# Altium schematic symbol library Terminal_Blocks_Spring Clamp_5.08mm.SchLib: 11 symbols
Pins are listed as number, name and electrical type; pins without a type are passive.

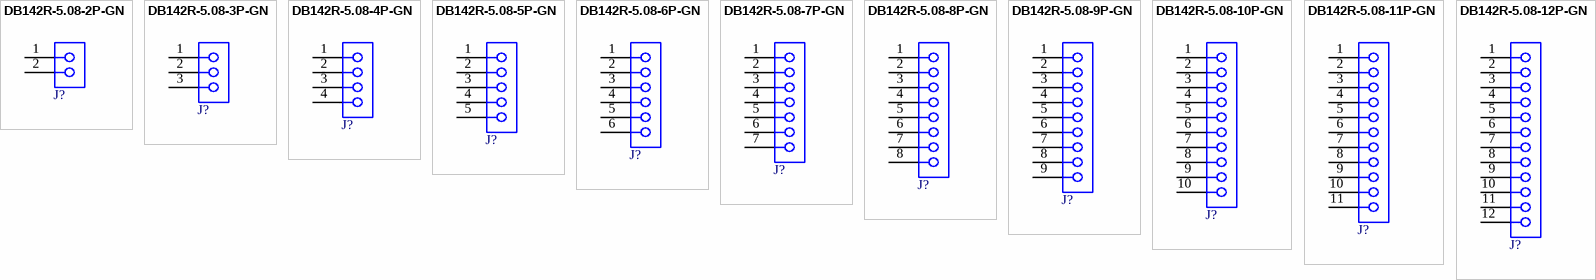
[diagram p0: symbols DB142R-5.08-2P-GN to DB142R-5.08-12P-GN]

## DB142R-5.08-2P-GN
designator J?  (value not drawn)
2 Position Wire to Board Terminal Block 5.08mm Through Hole, Right Angle; Manufacturer: DORABO; Match Code: WR-TBL; Modularity: No; Rated Current: 15A; Working Voltage: 300V; ComponentLink1Description: Datasheet; ComponentLink1URL: https://www.lcsc.com/datasheet/C2898709.pdf; Manufacturer Part Number: DB142R-5.08-2P-GN; Category: Terminal Blocks; Mount: Through Hole; Operating Temperature Max: 120°C; Operating Temperature Min: -30°C; Packaging: Box; Application: Screwless; Number of Pins: 2; Number of Rows: 1; Orientation: Horizontal; Pitch: 5.08mm; Supplier 1 URL: N/A; Supplier 2 URL: N/A; Supplier 3 URL: https://www.thegioiic.com/kf142-5-08-2-r-terminal-block-2-tiep-diem-cam-day-ngang-5-08mm-250v-10a; Value: DB142R-5.08-2P-GN; LCSC Part #: C2898709; Supplier 1: Mouser; Supplier 1 Part Number: N/A; Supplier 2: Digi-Key; Supplier 2 Part Number: N/A; Supplier 3: thegioiic; Supplier 3 Part Number: N/A
footprint 691411510002
pins: 1, 2

## DB142R-5.08-3P-GN
designator J?  (value not drawn)
3 Position Wire to Board Terminal Block 5.08mm Through Hole, Right Angle; Manufacturer: DORABO; Match Code: WR-TBL; Modularity: No; Rated Current: 15A; Working Voltage: 300V; ComponentLink1Description: Datasheet; ComponentLink1URL: https://www.lcsc.com/datasheet/C2898709.pdf; Manufacturer Part Number: DB142R-5.08-3P-GN; Category: Terminal Blocks; Mount: Through Hole; Operating Temperature Max: 120°C; Operating Temperature Min: -30°C; Packaging: Box; Application: Screwless; Number of Pins: 3; Number of Rows: 1; Orientation: Horizontal; Pitch: 5.08mm; Supplier 1 URL: N/A; Supplier 2 URL: N/A; Supplier 3 URL: https://www.thegioiic.com/kf142-5-08-3-r-terminal-block-3-tiep-diem-cam-day-ngang-5-08mm-250v-10a; Value: DB142R-5.08-3P-GN; LCSC Part #: C2898710; Supplier 1: Mouser; Supplier 1 Part Number: N/A; Supplier 2: Digi-Key; Supplier 2 Part Number: N/A; Supplier 3: thegioiic; Supplier 3 Part Number: N/A
footprint 691411510003
pins: 1, 2, 3

## DB142R-5.08-4P-GN
designator J?  (value not drawn)
4 Position Wire to Board Terminal Block 5.08mm Through Hole, Right Angle; Manufacturer: DORABO; Match Code: WR-TBL; Modularity: No; Rated Current: 15A; Working Voltage: 300V; ComponentLink1Description: Datasheet; ComponentLink1URL: https://www.lcsc.com/datasheet/C2898709.pdf; Manufacturer Part Number: DB142R-5.08-4P-GN; Category: Terminal Blocks; Mount: Through Hole; Operating Temperature Max: 120°C; Operating Temperature Min: -30°C; Packaging: Box; Application: Screwless; Number of Pins: 4; Number of Rows: 1; Orientation: Horizontal; Pitch: 5.08mm; Supplier 1 URL: N/A; Supplier 2 URL: N/A; Supplier 3 URL: https://www.thegioiic.com/kf142-5-08-4-r-terminal-block-4-tiep-diem-cam-day-ngang-5-08mm-250v-10a; Value: DB142R-5.08-4P-GN; LCSC Part #: C2898711; Supplier 1: Mouser; Supplier 1 Part Number: N/A; Supplier 2: Digi-Key; Supplier 2 Part Number: N/A; Supplier 3: thegioiic; Supplier 3 Part Number: N/A
footprint 691411510004
pins: 1, 2, 3, 4

## DB142R-5.08-5P-GN
designator J?  (value not drawn)
5 Position Wire to Board Terminal Block 5.08mm Through Hole, Right Angle; Manufacturer: DORABO; Match Code: WR-TBL; Modularity: No; Rated Current: 15A; Working Voltage: 300V; ComponentLink1Description: Datasheet; ComponentLink1URL: https://www.lcsc.com/datasheet/C2898709.pdf; Manufacturer Part Number: DB142R-5.08-5P-GN; Category: Terminal Blocks; Mount: Through Hole; Operating Temperature Max: 120°C; Operating Temperature Min: -30°C; Packaging: Box; Application: Screwless; Number of Pins: 5; Number of Rows: 1; Orientation: Horizontal; Pitch: 5.08mm; Supplier 1 URL: N/A; Supplier 2 URL: N/A; Supplier 3 URL: https://www.thegioiic.com/kf142-5-08-5-r-terminal-block-5-tiep-diem-cam-day-ngang-5-08mm-250v-10a; Value: DB142R-5.08-5P-GN; LCSC Part #: C2898712; Supplier 1: Mouser; Supplier 1 Part Number: N/A; Supplier 2: Digi-Key; Supplier 2 Part Number: N/A; Supplier 3: thegioiic; Supplier 3 Part Number: N/A
footprint 691411510005
pins: 1, 2, 3, 4, 5

## DB142R-5.08-6P-GN
designator J?  (value not drawn)
6 Position Wire to Board Terminal Block 5.08mm Through Hole, Right Angle; Manufacturer: DORABO; Match Code: WR-TBL; Modularity: No; Rated Current: 15A; Working Voltage: 300V; ComponentLink1Description: Datasheet; ComponentLink1URL: https://www.lcsc.com/datasheet/C2898709.pdf; Manufacturer Part Number: DB142R-5.08-6P-GN; Category: Terminal Blocks; Mount: Through Hole; Operating Temperature Max: 120°C; Operating Temperature Min: -30°C; Packaging: Box; Application: Screwless; Number of Pins: 6; Number of Rows: 1; Orientation: Horizontal; Pitch: 5.08mm; Supplier 1 URL: N/A; Supplier 2 URL: N/A; Supplier 3 URL: https://www.thegioiic.com/kf142-5-08-6-r-terminal-block-6-tiep-diem-cam-day-ngang-5-08mm-250v-10a; Value: DB142R-5.08-6P-GN; LCSC Part #: C2898713; Supplier 1: Mouser; Supplier 1 Part Number: N/A; Supplier 2: Digi-Key; Supplier 2 Part Number: N/A; Supplier 3: thegioiic; Supplier 3 Part Number: N/A
footprint 691411510006
pins: 1, 2, 3, 4, 5, 6

## DB142R-5.08-7P-GN
designator J?  (value not drawn)
7 Position Wire to Board Terminal Block 5.08mm Through Hole, Right Angle; Manufacturer: DORABO; Match Code: WR-TBL; Modularity: No; Rated Current: 15A; Working Voltage: 300V; ComponentLink1Description: Datasheet; ComponentLink1URL: https://www.lcsc.com/datasheet/C2898709.pdf; Manufacturer Part Number: DB142R-5.08-7P-GN; Category: Terminal Blocks; Mount: Through Hole; Operating Temperature Max: 120°C; Operating Temperature Min: -30°C; Packaging: Box; Application: Screwless; Number of Pins: 7; Number of Rows: 1; Orientation: Horizontal; Pitch: 5.08mm; Supplier 1 URL: N/A; Supplier 2 URL: N/A; Supplier 3 URL: https://www.thegioiic.com/kf142-5-08-7-r-terminal-block-7-tiep-diem-cam-day-ngang-5-08mm-250v-10a; Value: DB142R-5.08-7P-GN; LCSC Part #: C2898714; Supplier 1: Mouser; Supplier 1 Part Number: N/A; Supplier 2: Digi-Key; Supplier 2 Part Number: N/A; Supplier 3: thegioiic; Supplier 3 Part Number: N/A
footprint 691411510007
pins: 1, 2, 3, 4, 5, 6, 7

## DB142R-5.08-8P-GN
designator J?  (value not drawn)
8 Position Wire to Board Terminal Block 5.08mm Through Hole, Right Angle; Manufacturer: DORABO; Match Code: WR-TBL; Modularity: No; Rated Current: 15A; Working Voltage: 300V; ComponentLink1Description: Datasheet; ComponentLink1URL: https://www.lcsc.com/datasheet/C2898709.pdf; Manufacturer Part Number: DB142R-5.08-8P-GN; Category: Terminal Blocks; Mount: Through Hole; Operating Temperature Max: 120°C; Operating Temperature Min: -30°C; Packaging: Box; Application: Screwless; Number of Pins: 8; Number of Rows: 1; Orientation: Horizontal; Pitch: 5.08mm; Supplier 1 URL: N/A; Supplier 2 URL: N/A; Supplier 3 URL: https://www.thegioiic.com/kf142-5-08-8-r-terminal-block-8-tiep-diem-cam-day-ngang-5-08mm-250v-10a; Value: DB142R-5.08-8P-GN; LCSC Part #: C2898715; Supplier 1: Mouser; Supplier 1 Part Number: N/A; Supplier 2: Digi-Key; Supplier 2 Part Number: N/A; Supplier 3: thegioiic; Supplier 3 Part Number: N/A
footprint 691411510008
pins: 1, 2, 3, 4, 5, 6, 7, 8

## DB142R-5.08-9P-GN
designator J?  (value not drawn)
9 Position Wire to Board Terminal Block 5.08mm Through Hole, Right Angle; Manufacturer: DORABO; Match Code: WR-TBL; Modularity: No; Rated Current: 15A; Working Voltage: 300V; ComponentLink1Description: Datasheet; ComponentLink1URL: https://www.lcsc.com/datasheet/C2898709.pdf; Manufacturer Part Number: DB142R-5.08-9P-GN; Category: Terminal Blocks; Mount: Through Hole; Operating Temperature Max: 120°C; Operating Temperature Min: -30°C; Packaging: Box; Application: Screwless; Number of Pins: 9; Number of Rows: 1; Orientation: Horizontal; Pitch: 5.08mm; Supplier 1 URL: N/A; Supplier 2 URL: N/A; Supplier 3 URL: https://www.thegioiic.com/kf142-5-08-9-r-terminal-block-9-tiep-diem-cam-day-ngang-5-08mm-250v-10a; Value: DB142R-5.08-9P-GN; LCSC Part #: C2898716; Supplier 1: Mouser; Supplier 1 Part Number: N/A; Supplier 2: Digi-Key; Supplier 2 Part Number: N/A; Supplier 3: thegioiic; Supplier 3 Part Number: N/A
footprint 691411510009
pins: 1, 2, 3, 4, 5, 6, 7, 8, 9

## DB142R-5.08-10P-GN
designator J?  (value not drawn)
10 Position Wire to Board Terminal Block 5.08mm Through Hole, Right Angle; Manufacturer: DORABO; Match Code: WR-TBL; Modularity: No; Rated Current: 15A; Working Voltage: 300V; ComponentLink1Description: Datasheet; ComponentLink1URL: https://www.lcsc.com/datasheet/C2898709.pdf; Manufacturer Part Number: DB142R-5.08-10P-GN; Category: Terminal Blocks; Mount: Through Hole; Operating Temperature Max: 120°C; Operating Temperature Min: -30°C; Packaging: Box; Application: Screwless; Number of Pins: 10; Number of Rows: 1; Orientation: Horizontal; Pitch: 5.08mm; Supplier 1 URL: N/A; Supplier 2 URL: N/A; Supplier 3 URL: https://www.thegioiic.com/kf142-5-08-10-r-terminal-block-10-tiep-diem-cam-day-ngang-5-08mm-250v-10a; Value: DB142R-5.08-10P-GN; LCSC Part #: C2898717; Supplier 1: Mouser; Supplier 1 Part Number: N/A; Supplier 2: Digi-Key; Supplier 2 Part Number: N/A; Supplier 3: thegioiic; Supplier 3 Part Number: N/A
footprint 691411510010
pins: 1, 2, 3, 4, 5, 6, 7, 8, 9, 10

## DB142R-5.08-11P-GN
designator J?  (value not drawn)
11 Position Wire to Board Terminal Block 5.08mm Through Hole, Right Angle; Manufacturer: DORABO; Match Code: WR-TBL; Modularity: No; Rated Current: 15A; Working Voltage: 300V; ComponentLink1Description: Datasheet; ComponentLink1URL: https://www.lcsc.com/datasheet/C2898709.pdf; Manufacturer Part Number: DB142R-5.08-11P-GN; Category: Terminal Blocks; Mount: Through Hole; Operating Temperature Max: 120°C; Operating Temperature Min: -30°C; Packaging: Box; Application: Screwless; Number of Pins: 11; Number of Rows: 1; Orientation: Horizontal; Pitch: 5.08mm; Supplier 1 URL: N/A; Supplier 2 URL: N/A; Supplier 3 URL: https://www.thegioiic.com/kf142-5-08-11-r-terminal-block-11-tiep-diem-cam-day-ngang-5-08mm-250v-10a; Value: DB142R-5.08-11P-GN; LCSC Part #: N/A; Supplier 1: Mouser; Supplier 1 Part Number: N/A; Supplier 2: Digi-Key; Supplier 2 Part Number: N/A; Supplier 3: thegioiic; Supplier 3 Part Number: N/A
footprint 691411510011
pins: 1, 2, 3, 4, 5, 6, 7, 8, 9, 10, 11

## DB142R-5.08-12P-GN
designator J?  (value not drawn)
12 Position Wire to Board Terminal Block 5.08mm Through Hole, Right Angle; Manufacturer: DORABO; Match Code: WR-TBL; Modularity: No; Rated Current: 15A; Working Voltage: 300V; ComponentLink1Description: Datasheet; ComponentLink1URL: https://www.lcsc.com/datasheet/C2898709.pdf; Manufacturer Part Number: DB142R-5.08-12P-GN; Category: Terminal Blocks; Mount: Through Hole; Operating Temperature Max: 120°C; Operating Temperature Min: -30°C; Packaging: Box; Application: Screwless; Number of Pins: 12; Number of Rows: 1; Orientation: Horizontal; Pitch: 5.08mm; Supplier 1 URL: N/A; Supplier 2 URL: N/A; Supplier 3 URL: https://www.thegioiic.com/kf142-5-08-12-r-terminal-block-12-tiep-diem-cam-day-ngang-5-08mm-250v-10a; Value: DB142R-5.08-12P-GN; LCSC Part #: C2898718; Supplier 1: Mouser; Supplier 1 Part Number: N/A; Supplier 2: Digi-Key; Supplier 2 Part Number: N/A; Supplier 3: thegioiic; Supplier 3 Part Number: N/A
footprint 691411510012
pins: 1, 2, 3, 4, 5, 6, 7, 8, 9, 10, 11, 12